# EAGLE library part IMX50 (library mcu)
edit this description Auto generated by make-symbol-device-package-bsdl.ulp Rev. 44 Source:
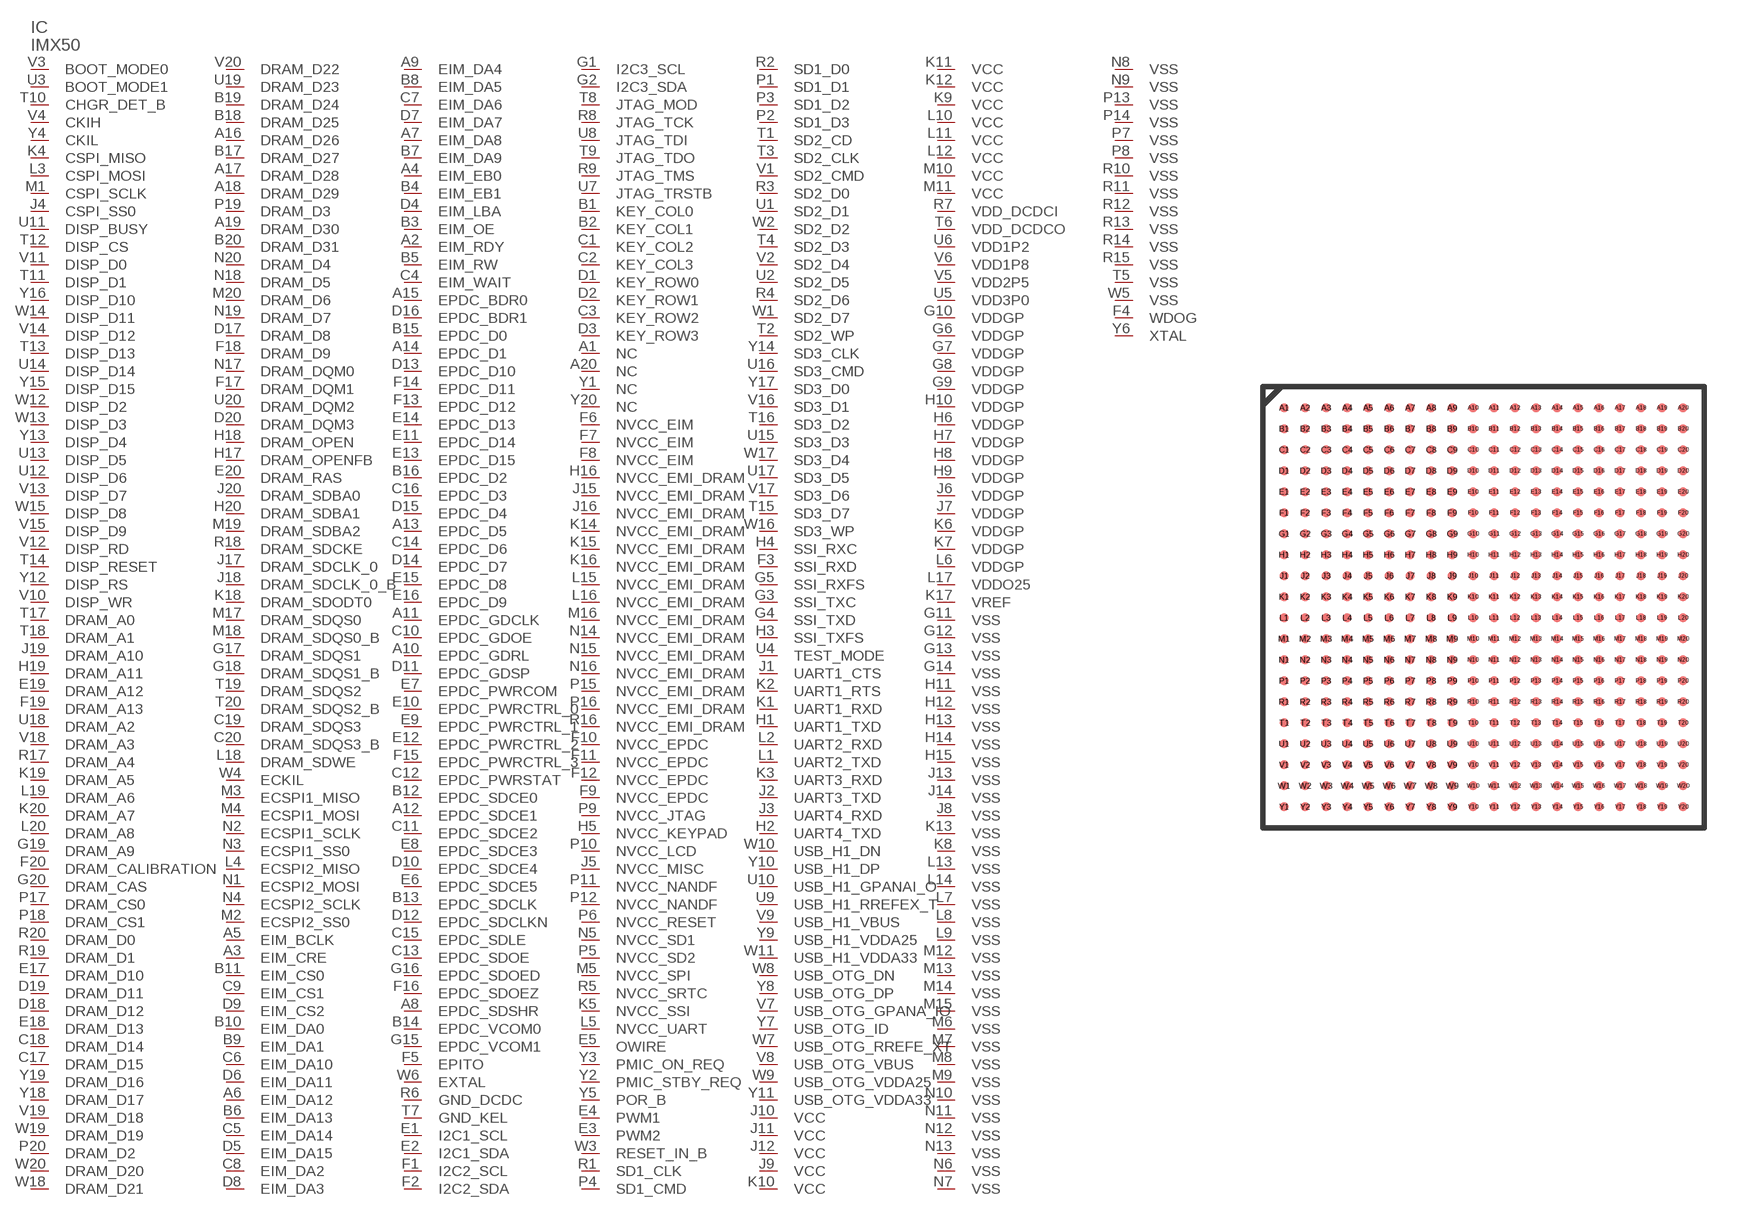
[diagram p0: symbol with the pads of MAPBGA400; footprint MAPBGA400]

Designator prefix IC

## IMX50400  [MAPBGA400]
A1  NC
A2  EIM_RDY  in
A3  EIM_CRE  out
A4  EIM_EB0  out
A5  EIM_BCLK  out
A6  EIM_DA12  in
A7  EIM_DA8  in
A8  EPDC_SDSHR  in
A9  EIM_DA4  in
A10  EPDC_GDRL  in
A11  EPDC_GDCLK  in
A12  EPDC_SDCE1  in
A13  EPDC_D5  in
A14  EPDC_D1  in
A15  EPDC_BDR0  in
A16  DRAM_D26  in
A17  DRAM_D28  in
A18  DRAM_D29  in
A19  DRAM_D30  in
A20  NC
B1  KEY_COL0  in
B2  KEY_COL1  in
B3  EIM_OE  out
B4  EIM_EB1  out
B5  EIM_RW  out
B6  EIM_DA13  in
B7  EIM_DA9  in
B8  EIM_DA5  in
B9  EIM_DA1  in
B10  EIM_DA0  in
B11  EIM_CS0  out
B12  EPDC_SDCE0  in
B13  EPDC_SDCLK  in
B14  EPDC_VCOM0  in
B15  EPDC_D0  in
B16  EPDC_D2  in
B17  DRAM_D27  in
B18  DRAM_D25  in
B19  DRAM_D24  in
B20  DRAM_D31  in
C1  KEY_COL2  in
C2  KEY_COL3  in
C3  KEY_ROW2  in
C4  EIM_WAIT  in
C5  EIM_DA14  in
C6  EIM_DA10  in
C7  EIM_DA6  in
C8  EIM_DA2  in
C9  EIM_CS1  out
C10  EPDC_GDOE  in
C11  EPDC_SDCE2  in
C12  EPDC_PWRSTAT  in
C13  EPDC_SDOE  in
C14  EPDC_D6  in
C15  EPDC_SDLE  in
C16  EPDC_D3  in
C17  DRAM_D15  in
C18  DRAM_D14  in
C19  DRAM_SDQS3  in
C20  DRAM_SDQS3_B  in
D1  KEY_ROW0  in
D2  KEY_ROW1  in
D3  KEY_ROW3  in
D4  EIM_LBA  out
D5  EIM_DA15  in
D6  EIM_DA11  in
D7  EIM_DA7  in
D8  EIM_DA3  in
D9  EIM_CS2  out
D10  EPDC_SDCE4  in
D11  EPDC_GDSP  in
D12  EPDC_SDCLKN  in
D13  EPDC_D10  in
D14  EPDC_D7  in
D15  EPDC_D4  in
D16  EPDC_BDR1  in
D17  DRAM_D8  in
D18  DRAM_D12  in
D19  DRAM_D11  in
D20  DRAM_DQM3  in
E1  I2C1_SCL  in
E2  I2C1_SDA  in
E3  PWM2  in
E4  PWM1  in
E5  OWIRE  in
E6  EPDC_SDCE5  in
E7  EPDC_PWRCOM  in
E8  EPDC_SDCE3  in
E9  EPDC_PWRCTRL_1  in
E10  EPDC_PWRCTRL_0  in
E11  EPDC_D14  in
E12  EPDC_PWRCTRL_2  in
E13  EPDC_D15  in
E14  EPDC_D13  in
E15  EPDC_D8  in
E16  EPDC_D9  in
E17  DRAM_D10  in
E18  DRAM_D13  in
E19  DRAM_A12  out
E20  DRAM_RAS  out
F1  I2C2_SCL  in
F2  I2C2_SDA  in
F3  SSI_RXD  in
F4  WDOG  in
F5  EPITO  in
F6  NVCC_EIM
F7  NVCC_EIM
F8  NVCC_EIM
F9  NVCC_EPDC
F10  NVCC_EPDC
F11  NVCC_EPDC
F12  NVCC_EPDC
F13  EPDC_D12  in
F14  EPDC_D11  in
F15  EPDC_PWRCTRL_3  in
F16  EPDC_SDOEZ  in
F17  DRAM_DQM1  in
F18  DRAM_D9  in
F19  DRAM_A13  out
F20  DRAM_CALIBRATION
G1  I2C3_SCL  in
G2  I2C3_SDA  in
G3  SSI_TXC  in
G4  SSI_TXD  in
G5  SSI_RXFS  in
G6  VDDGP
G7  VDDGP
G8  VDDGP
G9  VDDGP
G10  VDDGP
G11  VSS
G12  VSS
G13  VSS
G14  VSS
G15  EPDC_VCOM1  in
G16  EPDC_SDOED  in
G17  DRAM_SDQS1  in
G18  DRAM_SDQS1_B  in
G19  DRAM_A9  out
G20  DRAM_CAS  out
H1  UART1_TXD  in
H2  UART4_TXD  in
H3  SSI_TXFS  in
H4  SSI_RXC  in
H5  NVCC_KEYPAD
H6  VDDGP
H7  VDDGP
H8  VDDGP
H9  VDDGP
H10  VDDGP
H11  VSS
H12  VSS
H13  VSS
H14  VSS
H15  VSS
H16  NVCC_EMI_DRAM
H17  DRAM_OPENFB  in
H18  DRAM_OPEN  out
H19  DRAM_A11  out
H20  DRAM_SDBA1  out
J1  UART1_CTS  in
J2  UART3_TXD  in
J3  UART4_RXD  in
J4  CSPI_SS0  in
J5  NVCC_MISC
J6  VDDGP
J7  VDDGP
J8  VSS
J9  VCC
J10  VCC
J11  VCC
J12  VCC
J13  VSS
J14  VSS
J15  NVCC_EMI_DRAM
J16  NVCC_EMI_DRAM
J17  DRAM_SDCLK_0  out
J18  DRAM_SDCLK_0_B  out
J19  DRAM_A10  out
J20  DRAM_SDBA0  out
K1  UART1_RXD  in
K2  UART1_RTS  in
K3  UART3_RXD  in
K4  CSPI_MISO  in
K5  NVCC_SSI
K6  VDDGP
K7  VDDGP
K8  VSS
K9  VCC
K10  VCC
K11  VCC
K12  VCC
K13  VSS
K14  NVCC_EMI_DRAM
K15  NVCC_EMI_DRAM
K16  NVCC_EMI_DRAM
K17  VREF
K18  DRAM_SDODT0  out
K19  DRAM_A5  out
K20  DRAM_A7  out
L1  UART2_TXD  in
L2  UART2_RXD  in
L3  CSPI_MOSI  in
L4  ECSPI2_MISO  in
L5  NVCC_UART
L6  VDDGP
L7  VSS
L8  VSS
L9  VSS
L10  VCC
L11  VCC
L12  VCC
L13  VSS
L14  VSS
L15  NVCC_EMI_DRAM
L16  NVCC_EMI_DRAM
L17  VDDO25
L18  DRAM_SDWE  out
L19  DRAM_A6  out
L20  DRAM_A8  out
M1  CSPI_SCLK  in
M2  ECSPI2_SS0  in
M3  ECSPI1_MISO  in
M4  ECSPI1_MOSI  in
M5  NVCC_SPI
M6  VSS
M7  VSS
M8  VSS
M9  VSS
M10  VCC
M11  VCC
M12  VSS
M13  VSS
M14  VSS
M15  VSS
M16  NVCC_EMI_DRAM
M17  DRAM_SDQS0  in
M18  DRAM_SDQS0_B  in
M19  DRAM_SDBA2  out
M20  DRAM_D6  in
N1  ECSPI2_MOSI  in
N2  ECSPI1_SCLK  in
N3  ECSPI1_SS0  in
N4  ECSPI2_SCLK  in
N5  NVCC_SD1
N6  VSS
N7  VSS
N8  VSS
N9  VSS
N10  VSS
N11  VSS
N12  VSS
N13  VSS
N14  NVCC_EMI_DRAM
N15  NVCC_EMI_DRAM
N16  NVCC_EMI_DRAM
N17  DRAM_DQM0  in
N18  DRAM_D5  in
N19  DRAM_D7  in
N20  DRAM_D4  in
P1  SD1_D1  in
P2  SD1_D3  in
P3  SD1_D2  in
P4  SD1_CMD  in
P5  NVCC_SD2
P6  NVCC_RESET
P7  VSS
P8  VSS
P9  NVCC_JTAG
P10  NVCC_LCD
P11  NVCC_NANDF
P12  NVCC_NANDF
P13  VSS
P14  VSS
P15  NVCC_EMI_DRAM
P16  NVCC_EMI_DRAM
P17  DRAM_CS0  out
P18  DRAM_CS1  out
P19  DRAM_D3  in
P20  DRAM_D2  in
R1  SD1_CLK  in
R2  SD1_D0  in
R3  SD2_D0  in
R4  SD2_D6  in
R5  NVCC_SRTC
R6  GND_DCDC
R7  VDD_DCDCI
R8  JTAG_TCK  in
R9  JTAG_TMS  in
R10  VSS
R11  VSS
R12  VSS
R13  VSS
R14  VSS
R15  VSS
R16  NVCC_EMI_DRAM
R17  DRAM_A4  out
R18  DRAM_SDCKE  out
R19  DRAM_D1  in
R20  DRAM_D0  in
T1  SD2_CD  in
T2  SD2_WP  in
T3  SD2_CLK  in
T4  SD2_D3  in
T5  VSS
T6  VDD_DCDCO
T7  GND_KEL
T8  JTAG_MOD  in
T9  JTAG_TDO  out
T10  CHGR_DET_B  out
T11  DISP_D1  out
T12  DISP_CS  out
T13  DISP_D13  in
T14  DISP_RESET  in
T15  SD3_D7  in
T16  SD3_D2  in
T17  DRAM_A0  out
T18  DRAM_A1  out
T19  DRAM_SDQS2  in
T20  DRAM_SDQS2_B  in
U1  SD2_D1  in
U2  SD2_D5  in
U3  BOOT_MODE1  in
U4  TEST_MODE  in
U5  VDD3P0
U6  VDD1P2
U7  JTAG_TRSTB  in
U8  JTAG_TDI  in
U9  USB_H1_RREFEX_T
U10  USB_H1_GPANAI_O
U11  DISP_BUSY  in
U12  DISP_D6  out
U13  DISP_D5  out
U14  DISP_D14  in
U15  SD3_D3  in
U16  SD3_CMD  in
U17  SD3_D5  in
U18  DRAM_A2  out
U19  DRAM_D23  in
U20  DRAM_DQM2  in
V1  SD2_CMD  in
V2  SD2_D4  in
V3  BOOT_MODE0  in
V4  CKIH
V5  VDD2P5
V6  VDD1P8
V7  USB_OTG_GPANA_IO
V8  USB_OTG_VBUS
V9  USB_H1_VBUS
V10  DISP_WR  out
V11  DISP_D0  out
V12  DISP_RD  out
V13  DISP_D7  out
V14  DISP_D12  in
V15  DISP_D9  in
V16  SD3_D1  in
V17  SD3_D6  in
V18  DRAM_A3  out
V19  DRAM_D18  in
V20  DRAM_D22  in
W1  SD2_D7  in
W2  SD2_D2  in
W3  RESET_IN_B  in
W4  ECKIL
W5  VSS
W6  EXTAL
W7  USB_OTG_RREFE_XT
W8  USB_OTG_DN
W9  USB_OTG_VDDA25
W10  USB_H1_DN
W11  USB_H1_VDDA33
W12  DISP_D2  out
W13  DISP_D3  out
W14  DISP_D11  in
W15  DISP_D8  in
W16  SD3_WP  in
W17  SD3_D4  in
W18  DRAM_D21  in
W19  DRAM_D19  in
W20  DRAM_D20  in
Y1  NC
Y2  PMIC_STBY_REQ  out
Y3  PMIC_ON_REQ  out
Y4  CKIL
Y5  POR_B  in
Y6  XTAL
Y7  USB_OTG_ID
Y8  USB_OTG_DP
Y9  USB_H1_VDDA25
Y10  USB_H1_DP
Y11  USB_OTG_VDDA33
Y12  DISP_RS  out
Y13  DISP_D4  out
Y14  SD3_CLK  in
Y15  DISP_D15  in
Y16  DISP_D10  in
Y17  SD3_D0  in
Y18  DRAM_D17  in
Y19  DRAM_D16  in
Y20  NC

## Footprint MAPBGA400 (pad centres in mm)
edit this description Auto generated by make-symbol-device-package-bsdl.ulp Rev. 44 Source:
smd 0.35 x 0.35: A1 -7.6,7.6; A2 -6.8,7.6; A3 -6,7.6; A4 -5.2,7.6; A5 -4.4,7.6; A6 -3.6,7.6; A7 -2.8,7.6; A8 -2,7.6; A9 -1.2,7.6; A10 -0.4,7.6; A11 0.4,7.6; A12 1.2,7.6; A13 2,7.6; A14 2.8,7.6; A15 3.6,7.6; A16 4.4,7.6; A17 5.2,7.6; A18 6,7.6; A19 6.8,7.6; A20 7.6,7.6; B1 -7.6,6.8; B2 -6.8,6.8; B3 -6,6.8; B4 -5.2,6.8; B5 -4.4,6.8; B6 -3.6,6.8; B7 -2.8,6.8; B8 -2,6.8; B9 -1.2,6.8; B10 -0.4,6.8; B11 0.4,6.8; B12 1.2,6.8; B13 2,6.8; B14 2.8,6.8; B15 3.6,6.8; B16 4.4,6.8; B17 5.2,6.8; B18 6,6.8; B19 6.8,6.8; B20 7.6,6.8; C1 -7.6,6; C2 -6.8,6; C3 -6,6; C4 -5.2,6; C5 -4.4,6; C6 -3.6,6; C7 -2.8,6; C8 -2,6; C9 -1.2,6; C10 -0.4,6; C11 0.4,6; C12 1.2,6; C13 2,6; C14 2.8,6; C15 3.6,6; C16 4.4,6; C17 5.2,6; C18 6,6; C19 6.8,6; C20 7.6,6; D1 -7.6,5.2; D2 -6.8,5.2; D3 -6,5.2; D4 -5.2,5.2; D5 -4.4,5.2; D6 -3.6,5.2; D7 -2.8,5.2; D8 -2,5.2; D9 -1.2,5.2; D10 -0.4,5.2; D11 0.4,5.2; D12 1.2,5.2; D13 2,5.2; D14 2.8,5.2; D15 3.6,5.2; D16 4.4,5.2; D17 5.2,5.2; D18 6,5.2; D19 6.8,5.2; D20 7.6,5.2; E1 -7.6,4.4; E2 -6.8,4.4; E3 -6,4.4; E4 -5.2,4.4; E5 -4.4,4.4; E6 -3.6,4.4; E7 -2.8,4.4; E8 -2,4.4; E9 -1.2,4.4; E10 -0.4,4.4; E11 0.4,4.4; E12 1.2,4.4; E13 2,4.4; E14 2.8,4.4; E15 3.6,4.4; E16 4.4,4.4; E17 5.2,4.4; E18 6,4.4; E19 6.8,4.4; E20 7.6,4.4; F1 -7.6,3.6; F2 -6.8,3.6; F3 -6,3.6; F4 -5.2,3.6; F5 -4.4,3.6; F6 -3.6,3.6; F7 -2.8,3.6; F8 -2,3.6; F9 -1.2,3.6; F10 -0.4,3.6; F11 0.4,3.6; F12 1.2,3.6; F13 2,3.6; F14 2.8,3.6; F15 3.6,3.6; F16 4.4,3.6; F17 5.2,3.6; F18 6,3.6; F19 6.8,3.6; F20 7.6,3.6; G1 -7.6,2.8; G2 -6.8,2.8; G3 -6,2.8; G4 -5.2,2.8; G5 -4.4,2.8; G6 -3.6,2.8; G7 -2.8,2.8; G8 -2,2.8; G9 -1.2,2.8; G10 -0.4,2.8; G11 0.4,2.8; G12 1.2,2.8; G13 2,2.8; G14 2.8,2.8; G15 3.6,2.8; G16 4.4,2.8; G17 5.2,2.8; G18 6,2.8; G19 6.8,2.8; G20 7.6,2.8; H1 -7.6,2; H2 -6.8,2; H3 -6,2; H4 -5.2,2; H5 -4.4,2; H6 -3.6,2; H7 -2.8,2; H8 -2,2; H9 -1.2,2; H10 -0.4,2; H11 0.4,2; H12 1.2,2; H13 2,2; H14 2.8,2; H15 3.6,2; H16 4.4,2; H17 5.2,2; H18 6,2; H19 6.8,2; H20 7.6,2; J1 -7.6,1.2; J2 -6.8,1.2; J3 -6,1.2; J4 -5.2,1.2; J5 -4.4,1.2; J6 -3.6,1.2; J7 -2.8,1.2; J8 -2,1.2; J9 -1.2,1.2; J10 -0.4,1.2; J11 0.4,1.2; J12 1.2,1.2; J13 2,1.2; J14 2.8,1.2; J15 3.6,1.2; J16 4.4,1.2; J17 5.2,1.2; J18 6,1.2; J19 6.8,1.2; J20 7.6,1.2; K1 -7.6,0.4; K2 -6.8,0.4; K3 -6,0.4; K4 -5.2,0.4; K5 -4.4,0.4; K6 -3.6,0.4; K7 -2.8,0.4; K8 -2,0.4; K9 -1.2,0.4; K10 -0.4,0.4; K11 0.4,0.4; K12 1.2,0.4; K13 2,0.4; K14 2.8,0.4; K15 3.6,0.4; K16 4.4,0.4; K17 5.2,0.4; K18 6,0.4; K19 6.8,0.4; K20 7.6,0.4; L1 -7.6,-0.4; L2 -6.8,-0.4; L3 -6,-0.4; L4 -5.2,-0.4; L5 -4.4,-0.4; L6 -3.6,-0.4; L7 -2.8,-0.4; L8 -2,-0.4; L9 -1.2,-0.4; L10 -0.4,-0.4; L11 0.4,-0.4; L12 1.2,-0.4; L13 2,-0.4; L14 2.8,-0.4; L15 3.6,-0.4; L16 4.4,-0.4; L17 5.2,-0.4; L18 6,-0.4; L19 6.8,-0.4; L20 7.6,-0.4; M1 -7.6,-1.2; M2 -6.8,-1.2; M3 -6,-1.2; M4 -5.2,-1.2; M5 -4.4,-1.2; M6 -3.6,-1.2; M7 -2.8,-1.2; M8 -2,-1.2; M9 -1.2,-1.2; M10 -0.4,-1.2; M11 0.4,-1.2; M12 1.2,-1.2; M13 2,-1.2; M14 2.8,-1.2; M15 3.6,-1.2; M16 4.4,-1.2; M17 5.2,-1.2; M18 6,-1.2; M19 6.8,-1.2; M20 7.6,-1.2; N1 -7.6,-2; N2 -6.8,-2; N3 -6,-2; N4 -5.2,-2; N5 -4.4,-2; N6 -3.6,-2; N7 -2.8,-2; N8 -2,-2; N9 -1.2,-2; N10 -0.4,-2; N11 0.4,-2; N12 1.2,-2; N13 2,-2; N14 2.8,-2; N15 3.6,-2; N16 4.4,-2; N17 5.2,-2; N18 6,-2; N19 6.8,-2; N20 7.6,-2; P1 -7.6,-2.8; P2 -6.8,-2.8; P3 -6,-2.8; P4 -5.2,-2.8; P5 -4.4,-2.8; P6 -3.6,-2.8; P7 -2.8,-2.8; P8 -2,-2.8; P9 -1.2,-2.8; P10 -0.4,-2.8; P11 0.4,-2.8; P12 1.2,-2.8; P13 2,-2.8; P14 2.8,-2.8; P15 3.6,-2.8; P16 4.4,-2.8; P17 5.2,-2.8; P18 6,-2.8; P19 6.8,-2.8; P20 7.6,-2.8; R1 -7.6,-3.6; R2 -6.8,-3.6; R3 -6,-3.6; R4 -5.2,-3.6; R5 -4.4,-3.6; R6 -3.6,-3.6; R7 -2.8,-3.6; R8 -2,-3.6; R9 -1.2,-3.6; R10 -0.4,-3.6; R11 0.4,-3.6; R12 1.2,-3.6; R13 2,-3.6; R14 2.8,-3.6; R15 3.6,-3.6; R16 4.4,-3.6; R17 5.2,-3.6; R18 6,-3.6; R19 6.8,-3.6; R20 7.6,-3.6; T1 -7.6,-4.4; T2 -6.8,-4.4; T3 -6,-4.4; T4 -5.2,-4.4; T5 -4.4,-4.4; T6 -3.6,-4.4; T7 -2.8,-4.4; T8 -2,-4.4; T9 -1.2,-4.4; T10 -0.4,-4.4; T11 0.4,-4.4; T12 1.2,-4.4; T13 2,-4.4; T14 2.8,-4.4; T15 3.6,-4.4; T16 4.4,-4.4; T17 5.2,-4.4; T18 6,-4.4; T19 6.8,-4.4; T20 7.6,-4.4; U1 -7.6,-5.2; U2 -6.8,-5.2; U3 -6,-5.2; U4 -5.2,-5.2; U5 -4.4,-5.2; U6 -3.6,-5.2; U7 -2.8,-5.2; U8 -2,-5.2; U9 -1.2,-5.2; U10 -0.4,-5.2; U11 0.4,-5.2; U12 1.2,-5.2; U13 2,-5.2; U14 2.8,-5.2; U15 3.6,-5.2; U16 4.4,-5.2; U17 5.2,-5.2; U18 6,-5.2; U19 6.8,-5.2; U20 7.6,-5.2; V1 -7.6,-6; V2 -6.8,-6; V3 -6,-6; V4 -5.2,-6; V5 -4.4,-6; V6 -3.6,-6; V7 -2.8,-6; V8 -2,-6; V9 -1.2,-6; V10 -0.4,-6; V11 0.4,-6; V12 1.2,-6; V13 2,-6; V14 2.8,-6; V15 3.6,-6; V16 4.4,-6; V17 5.2,-6; V18 6,-6; V19 6.8,-6; V20 7.6,-6; W1 -7.6,-6.8; W2 -6.8,-6.8; W3 -6,-6.8; W4 -5.2,-6.8; W5 -4.4,-6.8; W6 -3.6,-6.8; W7 -2.8,-6.8; W8 -2,-6.8; W9 -1.2,-6.8; W10 -0.4,-6.8; W11 0.4,-6.8; W12 1.2,-6.8; W13 2,-6.8; W14 2.8,-6.8; W15 3.6,-6.8; W16 4.4,-6.8; W17 5.2,-6.8; W18 6,-6.8; W19 6.8,-6.8; W20 7.6,-6.8; Y1 -7.6,-7.6; Y2 -6.8,-7.6; Y3 -6,-7.6; Y4 -5.2,-7.6; Y5 -4.4,-7.6; Y6 -3.6,-7.6; Y7 -2.8,-7.6; Y8 -2,-7.6; Y9 -1.2,-7.6; Y10 -0.4,-7.6; Y11 0.4,-7.6; Y12 1.2,-7.6; Y13 2,-7.6; Y14 2.8,-7.6; Y15 3.6,-7.6; Y16 4.4,-7.6; Y17 5.2,-7.6; Y18 6,-7.6; Y19 6.8,-7.6; Y20 7.6,-7.6